# Altium schematic symbol library TCM82X.SchLib: 1 symbol
Pins are listed as number, name and electrical type; pins without a type are passive.

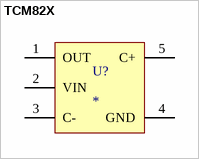
[diagram p0: symbol TCM82X]

## TCM82X
designator U?
TCM828/TCM829 DC/DC Charge Pump Inverter and Doubler 20-45mA; Part No.: TCM82X; Manufacturer: Microchip; Vendor: Digi-Key; Price Est.: $0.50
pins: 1 OUT, 2 VIN, 3 C-, 4 GND, 5 C+